# Altium footprint library Rising Clamp System WR-TBL_7.00 mm.PcbLib: 22 footprints (part 2 of 2)
Each footprint in its own frame and in the unit in brackets; x right, y up, seen from the top. Pads: shape width x height; smd on the part's side, far side on the other; paste and mask are expansions set on the pad; w line width, h text height; cw(c..) or ccw(c..) is an arc to the next point about the centre after c.
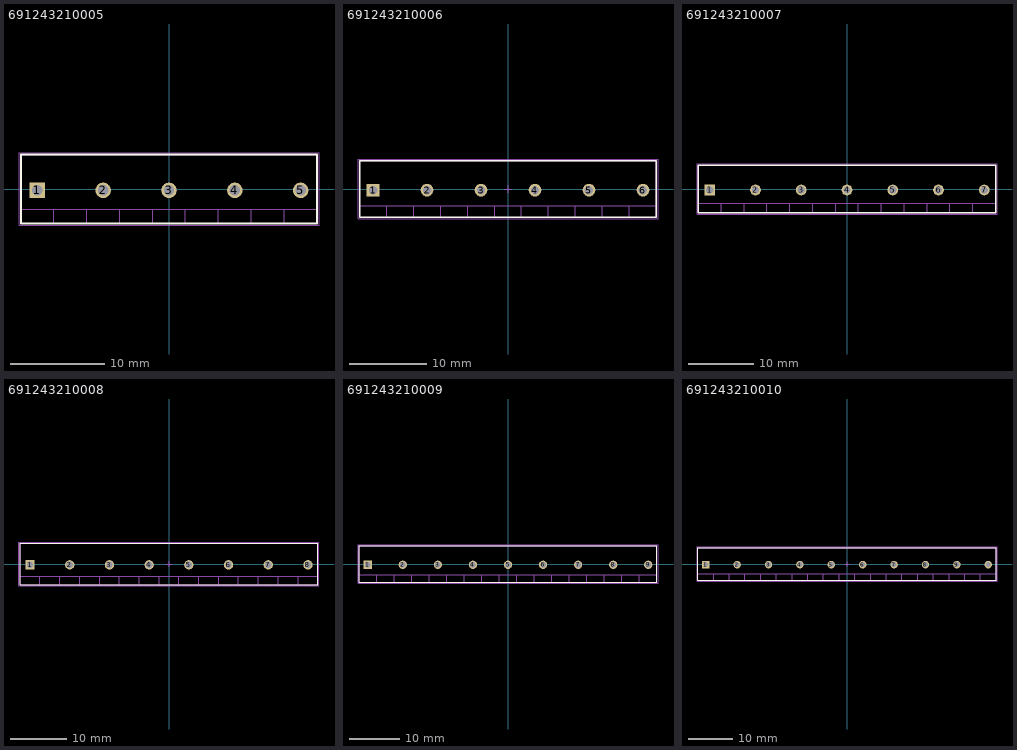
[diagram p1: the footprints below, top view; thin cyan lines are the x and y axes]

## 691243210005 [mm] "Serie 2432 - 7.00 mm _ 5 pins"
height 9.1
pads (5):
  rect 1.65x1.65 hole 1.1: 1(-14,-0.15)
  round 1.65 hole 1.1: 2(-7,-0.15) 3(0,-0.15) 4(7,-0.15) 5(14,-0.15)
Top Overlay:
  lines w0.2: -15.75,-3.65 -15.75,3.65 15.75,3.65 15.75,-3.65 -15.75,-3.65
M13 Assembly Top:
  lines w0.1: -15.75,-2.15 15.75,-2.15 ; -12.25,-3.65 -12.25,-2.15 ; -8.75,-3.65 -8.75,-2.15 ; -5.25,-3.65 -5.25,-2.15 ; -1.75,-3.65 -1.75,-2.15 ; 1.75,-3.65 1.75,-2.15 ; 5.25,-3.65 5.25,-2.15 ; 8.75,-3.65 8.75,-2.15 ; 12.25,-3.65 12.25,-2.15 ; -15.75,-3.65 15.75,-3.65 15.75,3.65 -15.75,3.65 -15.75,-3.65
M15 Courtyard Top:
  lines w0.05: -0.5,0 0.5,0 ; 0,-0.5 0,0.5 ; -15.95,-3.85 -15.95,3.85 15.95,3.85 15.95,-3.85 -15.95,-3.85
3D body "691243210005.stp": height 9.15, standoff -3.45, extent -15.75,-3.65 15.75,3.65

## 691243210006 [mm] "Serie 2432 - 7.00 mm _ 6 pins"
height 9.1
pads (6):
  rect 1.65x1.65 hole 1.1: 1(-17.5,-0.15)
  round 1.65 hole 1.1: 2(-10.5,-0.15) 3(-3.5,-0.15) 4(3.5,-0.15) 5(10.5,-0.15) 6(17.5,-0.15)
Top Overlay:
  lines w0.2: -19.25,-3.65 19.25,-3.65 19.25,3.65 -19.25,3.65 -19.25,-3.65
M13 Assembly Top:
  lines w0.1: -19.25,-2.15 19.25,-2.15 ; -15.75,-3.65 -15.75,-2.15 ; -12.25,-3.65 -12.25,-2.15 ; -8.75,-3.65 -8.75,-2.15 ; -5.25,-3.65 -5.25,-2.15 ; -1.75,-3.65 -1.75,-2.15 ; 1.75,-3.65 1.75,-2.15 ; 5.25,-3.65 5.25,-2.15 ; 8.75,-3.65 8.75,-2.15 ; 12.25,-3.65 12.25,-2.15 ; 15.75,-3.65 15.75,-2.15 ; -19.25,-3.65 -19.25,3.65 19.25,3.65 19.25,-3.65 -19.25,-3.65
M15 Courtyard Top:
  lines w0.05: -0.5,0 0.5,0 ; 0,-0.5 0,0.5 ; -19.45,-3.85 19.45,-3.85 19.45,3.85 -19.45,3.85 -19.45,-3.85
3D body "691243210006.stp": height 9.15, standoff -3.45, extent -19.25,-3.65 19.25,3.65

## 691243210007 [mm] "Serie 2432 - 7.00 mm _ 7 pins"
height 9.1
pads (7):
  rect 1.65x1.65 hole 1.1: 1(-21,-0.15)
  round 1.65 hole 1.1: 2(-14,-0.15) 3(-7,-0.15) 4(0,-0.15) 5(7,-0.15) 6(14,-0.15) 7(21,-0.15)
Top Overlay:
  lines w0.2: -22.75,-3.65 -22.75,3.65 22.75,3.65 22.75,-3.65 -22.75,-3.65
M13 Assembly Top:
  lines w0.1: -22.75,-2.15 22.75,-2.15 ; -19.25,-3.65 -19.25,-2.15 ; -15.75,-3.65 -15.75,-2.15 ; -12.25,-3.65 -12.25,-2.15 ; -8.75,-3.65 -8.75,-2.15 ; -5.25,-3.65 -5.25,-2.15 ; -1.75,-3.65 -1.75,-2.15 ; 1.75,-3.65 1.75,-2.15 ; 5.25,-3.65 5.25,-2.15 ; 8.75,-3.65 8.75,-2.15 ; 12.25,-3.65 12.25,-2.15 ; 15.75,-3.65 15.75,-2.15 ; 19.25,-3.65 19.25,-2.15 ; -22.75,-3.65 22.75,-3.65 22.75,3.65 -22.75,3.65 -22.75,-3.65
M15 Courtyard Top:
  lines w0.05: -0.5,0 0.5,0 ; 0,-0.5 0,0.5 ; -22.95,-3.85 -22.95,3.85 22.95,3.85 22.95,-3.85 -22.95,-3.85
3D body "691243210007.stp": height 9.15, standoff -3.45, extent -22.75,-3.65 22.75,3.65

## 691243210008 [mm] "Serie 2432 - 7.00 mm _ 8 pins"
height 9.1
pads (8):
  rect 1.65x1.65 hole 1.1: 1(-24.5,-0.15)
  round 1.65 hole 1.1: 2(-17.5,-0.15) 3(-10.5,-0.15) 4(-3.5,-0.15) 5(3.5,-0.15) 6(10.5,-0.15) 7(17.5,-0.15) 8(24.5,-0.15)
Top Overlay:
  lines w0.2: -26.25,-3.65 26.25,-3.65 26.25,3.65 -26.25,3.65 -26.25,-3.65
M13 Assembly Top:
  lines w0.1: -26.25,-2.15 26.25,-2.15 ; -22.75,-3.65 -22.75,-2.15 ; -19.25,-3.65 -19.25,-2.15 ; -15.75,-3.65 -15.75,-2.15 ; -12.25,-3.65 -12.25,-2.15 ; -8.75,-3.65 -8.75,-2.15 ; -5.25,-3.65 -5.25,-2.15 ; -1.75,-3.65 -1.75,-2.15 ; 1.75,-3.65 1.75,-2.15 ; 5.25,-3.65 5.25,-2.15 ; 8.75,-3.65 8.75,-2.15 ; 12.25,-3.65 12.25,-2.15 ; 15.75,-3.65 15.75,-2.15 ; 19.25,-3.65 19.25,-2.15 ; 22.75,-3.65 22.75,-2.15 ; -26.25,-3.65 -26.25,3.65 26.25,3.65 26.25,-3.65 -26.25,-3.65
M15 Courtyard Top:
  lines w0.05: -0.5,0 0.5,0 ; 0,-0.5 0,0.5 ; -26.45,-3.85 26.45,-3.85 26.45,3.85 -26.45,3.85 -26.45,-3.85
3D body "691243210008.stp": height 9.15, standoff -3.45, extent -26.25,-3.65 26.25,3.65

## 691243210009 [mm] "Serie 2432 - 7.00 mm _ 9 pins"
height 9.1
pads (9):
  rect 1.65x1.65 hole 1.1: 1(-28,-0.15)
  round 1.65 hole 1.1: 2(-21,-0.15) 3(-14,-0.15) 4(-7,-0.15) 5(0,-0.15) 6(7,-0.15) 7(14,-0.15) 8(21,-0.15) 9(28,-0.15)
Top Overlay:
  lines w0.2: -29.75,-3.65 29.75,-3.65 29.75,3.65 -29.75,3.65 -29.75,-3.65
M13 Assembly Top:
  lines w0.1: -29.75,-2.15 29.75,-2.15 ; -26.25,-3.65 -26.25,-2.15 ; -22.75,-3.65 -22.75,-2.15 ; -19.25,-3.65 -19.25,-2.15 ; -15.75,-3.65 -15.75,-2.15 ; -12.25,-3.65 -12.25,-2.15 ; -8.75,-3.65 -8.75,-2.15 ; -5.25,-3.65 -5.25,-2.15 ; -1.75,-3.65 -1.75,-2.15 ; 1.75,-3.65 1.75,-2.15 ; 5.25,-3.65 5.25,-2.15 ; 8.75,-3.65 8.75,-2.15 ; 12.25,-3.65 12.25,-2.15 ; 15.75,-3.65 15.75,-2.15 ; 19.25,-3.65 19.25,-2.15 ; 22.75,-3.65 22.75,-2.15 ; 26.25,-3.65 26.25,-2.15 ; -29.75,-3.65 -29.75,3.65 29.75,3.65 29.75,-3.65 -29.75,-3.65
M15 Courtyard Top:
  lines w0.05: -0.5,0 0.5,0 ; 0,-0.5 0,0.5 ; -29.95,-3.85 29.95,-3.85 29.95,3.85 -29.95,3.85 -29.95,-3.85
3D body "691243210009.stp": height 9.15, standoff -3.45, extent -29.75,-3.65 29.75,3.65

## 691243210010 [mm] "Serie 2432 - 7.00 mm _ 10 pins"
height 9.1
pads (10):
  rect 1.65x1.65 hole 1.1: 1(-31.5,-0.15)
  round 1.65 hole 1.1: 2(-24.5,-0.15) 3(-17.5,-0.15) 4(-10.5,-0.15) 5(-3.5,-0.15) 6(3.5,-0.15) 7(10.5,-0.15) 8(17.5,-0.15) 9(24.5,-0.15) 10(31.5,-0.15)
Top Overlay:
  lines w0.2: -33.25,-3.65 -33.25,3.65 33.25,3.65 33.25,-3.65 -33.25,-3.65
M13 Assembly Top:
  lines w0.1: -33.25,-2.15 33.25,-2.15 ; -29.75,-3.65 -29.75,-2.15 ; -26.25,-3.65 -26.25,-2.15 ; -22.75,-3.65 -22.75,-2.15 ; -19.25,-3.65 -19.25,-2.15 ; -15.75,-3.65 -15.75,-2.15 ; -12.25,-3.65 -12.25,-2.15 ; -8.75,-3.65 -8.75,-2.15 ; -5.25,-3.65 -5.25,-2.15 ; -1.75,-3.65 -1.75,-2.15 ; 1.75,-3.65 1.75,-2.15 ; 5.25,-3.65 5.25,-2.15 ; 8.75,-3.65 8.75,-2.15 ; 12.25,-3.65 12.25,-2.15 ; 15.75,-3.65 15.75,-2.15 ; 19.25,-3.65 19.25,-2.15 ; 22.75,-3.65 22.75,-2.15 ; 26.25,-3.65 26.25,-2.15 ; 29.75,-3.65 29.75,-2.15 ; -33.25,-3.65 33.25,-3.65 33.25,3.65 -33.25,3.65 -33.25,-3.65
M15 Courtyard Top:
  lines w0.05: -0.5,0 0.5,0 ; 0,-0.5 0,0.5 ; -33.45,-3.85 -33.45,3.85 33.45,3.85 33.45,-3.85 -33.45,-3.85
3D body "691243210010.stp": height 9.15, standoff -3.45, extent -33.25,-3.65 33.25,3.65